# EAGLE library part CON_PS/2 (library GadgetFactory_v1)
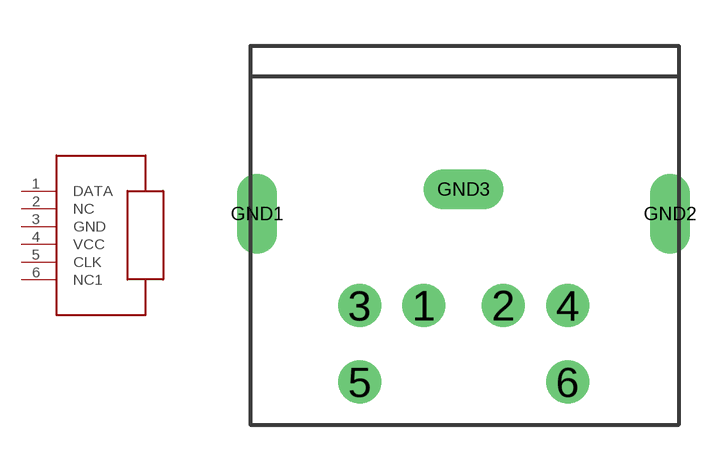
[diagram p42: symbol with the pads of PS/2; footprint PS/2]

Designator prefix J

## CON_PS/2  [PS/2]
1  DATA
2  NC  nc
3  GND  pas
4  VCC  in
5  CLK  out
6  NC1  nc

## Footprint PS/2 (pad centres in mm)
drill 0.9: 1 -1.3,0; 2 1.3,0; 3 -3.4,0; 4 3.4,0; 5 -3.4,-2.5; 6 3.4,-2.5
drill 0.8 long: GND1 -6.75,3; GND2 6.75,3; GND3 0,3.8